# EAGLE library part ATSAMD21E18A-AF (library ATSAMD21E18A-AF)
The SAM D21 is a series of low-power microcontrollers using the 32-bit ARM® Cortex® -M0+ processor, and ranging from 32- to 64-pins with up to 256KB Flash and 32KB of SRAM. The SAM D21 operate at a maximum frequency of 48MHz and reach 2.46 CoreMark® /MHz.
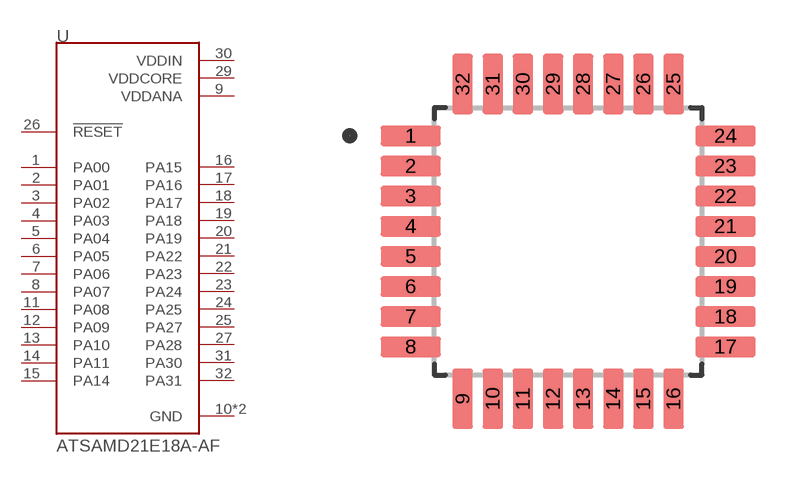
[diagram p0: symbol with the pads of QFP80P900X900X120-32N; footprint QFP80P900X900X120-32N]

Designator prefix U

## ATSAMD21E18A-AF (Availability: Unavailable; Description: MCU 32-Bit SAM D21E ARM Cortex M0+ RISC 256KB Flash 3.3V 32-Pin TQFP Tray; MF: Microchip; MP: ATSAMD21E18A-AF; Package: TQFP-32 Microchip; Price: None)  [QFP80P900X900X120-32N]
1  PA00
2  PA01
3  PA02
4  PA03
5  PA04
6  PA05
7  PA06
8  PA07
9  VDDANA  pwr
10  GND  pwr
11  PA08
12  PA09
13  PA10
14  PA11
15  PA14
16  PA15
17  PA16
18  PA17
19  PA18
20  PA19
21  PA22
22  PA23
23  PA24
24  PA25
25  PA27
26  !RESET  in
27  PA28
28  GND  pwr
29  VDDCORE  pwr
30  VDDIN  pwr
31  PA30
32  PA31

## Footprint QFP80P900X900X120-32N (pad centres in mm)
smd 1.6 x 0.55: 1 -4.18,2.8; 2 -4.18,2; 3 -4.18,1.2; 4 -4.18,0.4; 5 -4.18,-0.4; 6 -4.18,-1.2; 7 -4.18,-2; 8 -4.18,-2.8; 17 4.18,-2.8; 18 4.18,-2; 19 4.18,-1.2; 20 4.18,-0.4; 21 4.18,0.4; 22 4.18,1.2; 23 4.18,2; 24 4.18,2.8
smd 0.55 x 1.6: 9 -2.8,-4.18; 10 -2,-4.18; 11 -1.2,-4.18; 12 -0.4,-4.18; 13 0.4,-4.18; 14 1.2,-4.18; 15 2,-4.18; 16 2.8,-4.18; 25 2.8,4.18; 26 2,4.18; 27 1.2,4.18; 28 0.4,4.18; 29 -0.4,4.18; 30 -1.2,4.18; 31 -2,4.18; 32 -2.8,4.18